# Altium footprint library CRYSTAL.PcbLib: 1 footprints
Each footprint in its own frame and in the unit in brackets; x right, y up, seen from the top. Pads: shape width x height; smd on the part's side, far side on the other; paste and mask are expansions set on the pad; w line width, h text height; cw(c..) or ccw(c..) is an arc to the next point about the centre after c.
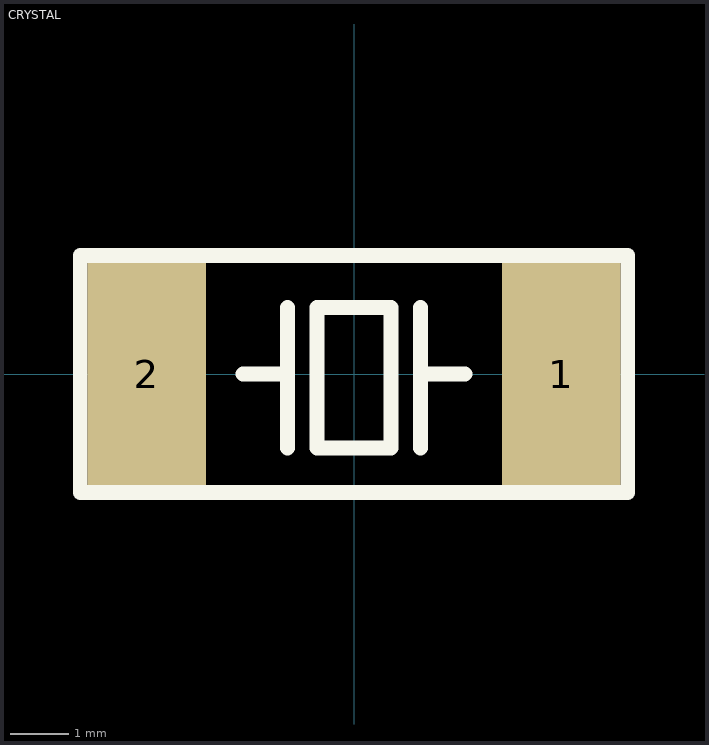
[diagram p0: the footprint, top view; thin cyan lines are the x and y axes]

## CRYSTAL [mil] "贴片晶振"
pads (2):
  rect 80x150 smd: 1(140,0) 2(-140,0)
Top Overlay:
  lines w10: -75,0 -45,0 ; -45,-50 -45,45 ; 45,-50 45,45 ; 45,0 75,0 ; -185,-80 -185,80 185,80 185,-80 -185,-80 ; -25,-50 -25,45 25,45 25,-50 -25,-50